# Altium footprint library ic.PcbLib: 40 footprints (part 2 of 3)
Each footprint in its own frame and in the unit in brackets; x right, y up, seen from the top. Pads: shape width x height; smd on the part's side, far side on the other; paste and mask are expansions set on the pad; w line width, h text height; cw(c..) or ccw(c..) is an arc to the next point about the centre after c.
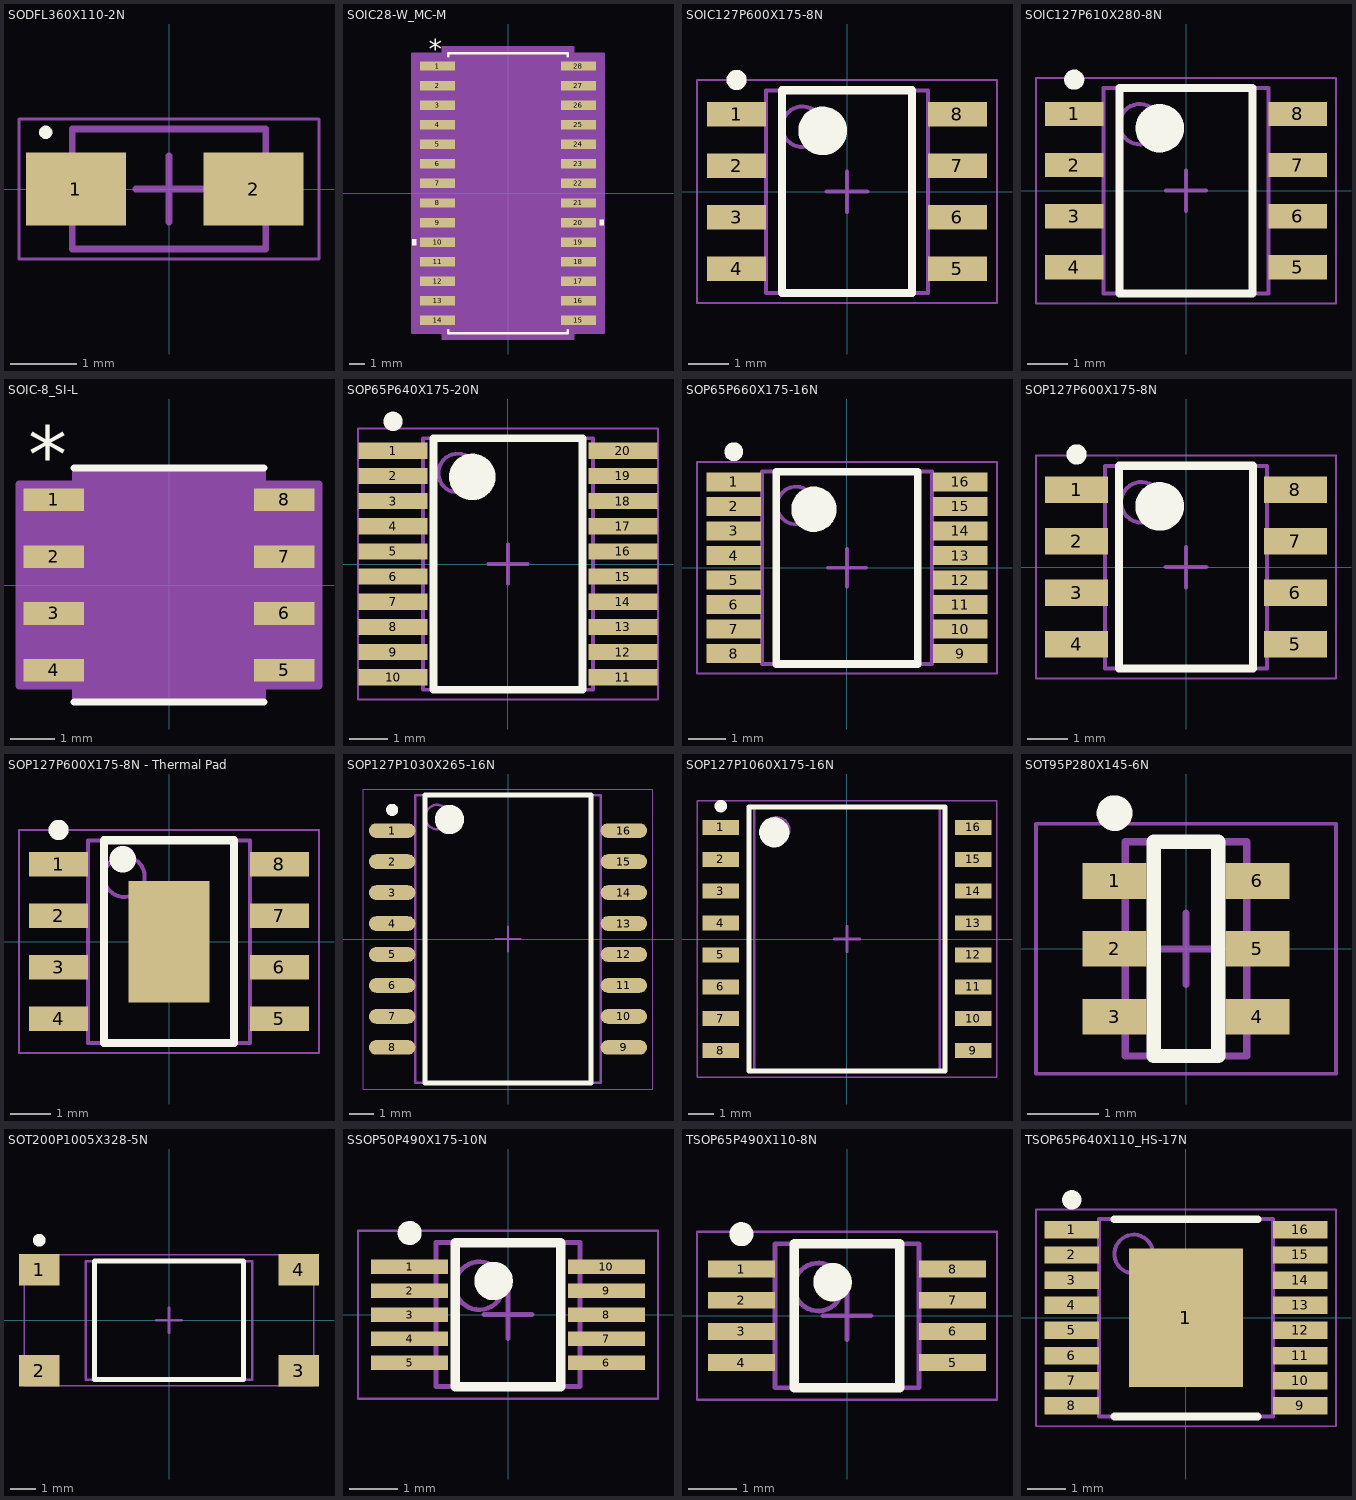
[diagram p1: the footprints below, top view; thin cyan lines are the x and y axes]

## SODFL360X110-2N [mm] "SODFL, 2-Leads, Body 1.65x3.60mm, IPC Medium Density"
height 1.1
pads (2):
  rect 1.5x1.1 smd: 1(-1.397,0) 2(1.27,0)
Top Overlay:
  circle w0.1: c-1.85,0.85 r0.05
Mechanical 13:
  lines w0.1: -1.45,-0.9 -1.45,0.9 1.45,0.9 1.45,-0.9 -1.45,-0.9
Mechanical 15:
  lines w0.05: -2.25,-1.05 -2.25,1.05 2.25,1.05 2.25,-1.05 -2.25,-1.05
  lines w0.1: -0.5,0 0.5,0 ; 0,-0.5 0,0.5
3D body "SODFL360X110-2N.step": height 1.1, standoff 0, extent -1.8,-0.9 1.8,0.9

## SOIC28-W_MC-M [mil]
pads (28):
  rect 90x24 smd paste+0 mask+0: 1(-180,325) 2(-180,275) 3(-180,225) 4(-180,175) 5(-180,125) 6(-180,75) 7(-180,25) 8(-180,-25) 9(-180,-75) 10(-180,-125) 11(-180,-175) 12(-180,-225) 13(-180,-275) 14(-180,-325) 15(180,-325) 16(180,-275) 17(180,-225) 18(180,-175) 19(180,-125) 20(180,-75) 21(180,-25) 22(180,25) 23(180,75) 24(180,125) 25(180,175) 26(180,225) 27(180,275) 28(180,325)
Top Overlay:
  region: 235,-67.5 245,-67.5 245,-82.5 235,-82.5
  region: -235,-117.5 -245,-117.5 -245,-132.5 -235,-132.5
  lines w6: -152.5,-350.1 -152.5,-357.5 152.5,-357.5 152.5,-350.1 ; -152.5,350.1 -152.5,357.5 152.5,357.5 152.5,350.1
  text "*" at -202.5,344 h50
Mechanical 13:
  lines w0: -12,352.5 ccw(c0,352.5) 12,352.5
  lines w1: -203,-335 -147.5,-335 -147.5,-315 -203,-315 -203,-335 ; -203,-285 -147.5,-285 -147.5,-265 -203,-265 -203,-285 ; -203,-235 -147.5,-235 -147.5,-215 -203,-215 -203,-235 ; -203,-185 -147.5,-185 -147.5,-165 -203,-165 -203,-185 ; -203,-135 -147.5,-135 -147.5,-115 -203,-115 -203,-135 ; -203,-85 -147.5,-85 -147.5,-65 -203,-65 -203,-85 ; -203,-35 -147.5,-35 -147.5,-15 -203,-15 -203,-35 ; -203,15 -147.5,15 -147.5,35 -203,35 -203,15 ; -203,65 -147.5,65 -147.5,85 -203,85 -203,65 ; -203,115 -147.5,115 -147.5,135 -203,135 -203,115 ; -203,165 -147.5,165 -147.5,185 -203,185 -203,165 ; -203,215 -147.5,215 -147.5,235 -203,235 -203,215 ; -203,265 -147.5,265 -147.5,285 -203,285 -203,265 ; -203,315 -147.5,315 -147.5,335 -203,335 -203,315 ; -147.5,-352.5 -147.5,352.5 147.5,352.5 147.5,-352.5 -147.5,-352.5 ; 147.5,-335 203,-335 203,-315 147.5,-315 147.5,-335 ; 147.5,-285 203,-285 203,-265 147.5,-265 147.5,-285 ; 147.5,-235 203,-235 203,-215 147.5,-215 147.5,-235 ; 147.5,-185 203,-185 203,-165 147.5,-165 147.5,-185 ; 147.5,-135 203,-135 203,-115 147.5,-115 147.5,-135 ; 147.5,-85 203,-85 203,-65 147.5,-65 147.5,-85 ; 147.5,-35 203,-35 203,-15 147.5,-15 147.5,-35 ; 147.5,15 203,15 203,35 147.5,35 147.5,15 ; 147.5,65 203,65 203,85 147.5,85 147.5,65 ; 147.5,115 203,115 203,135 147.5,135 147.5,115 ; 147.5,165 203,165 203,185 147.5,185 147.5,165 ; 147.5,215 203,215 203,235 147.5,235 147.5,215 ; 147.5,265 203,265 203,285 147.5,285 147.5,265 ; 147.5,315 203,315 203,335 147.5,335 147.5,315
  text "*" at -145,299.5 h50
Mechanical 15:
  region: -167.5,-357 -245,-357 -245,357 -167.5,357 -167.5,372.5 167.5,372.5 167.5,357 245,357 245,-357 167.5,-357 167.5,-372.5 -167.5,-372.5
  lines w6: -245,-357 -167.5,-357 -167.5,-372.5 167.5,-372.5 167.5,-357 245,-357 245,357 167.5,357 167.5,372.5 -167.5,372.5 -167.5,357 -245,357 -245,-357
3D body: height 10, standoff 0, extent 0,0 10,10
3D body: height 9, standoff -1153.85, extent -100,-10 -100,-10
3D body "SOIC28-W_MC-L.stp": height 104.09, standoff 0, extent -202.99,-352.51 203,352.52

## SOIC127P600X175-8N [mm] "SOIC, 8-Leads, Body 4.90x3.90mm, Pitch 1.27mm, IPC Medium Density"
height 1.75
pads (8):
  rect 1.45x0.6 smd: 1(-2.725,1.905) 2(-2.725,0.635) 3(-2.725,-0.635) 4(-2.725,-1.905) 5(2.725,-1.905) 6(2.725,-0.635) 7(2.725,0.635) 8(2.725,1.905)
Top Overlay:
  circle w0.6: c-0.6,1.5 r0.3
  circle w0.25: c-2.725,2.755 r0.125
  lines w0.2: -1.6,-2.5 1.6,-2.5 1.6,2.5 -1.6,2.5 -1.6,-2.5
Mechanical 13:
  circle w0.1: c-1.1,1.6 r0.5
  lines w0.1: -2,-2.5 2,-2.5 2,2.5 -2,2.5 -2,-2.5
Mechanical 15:
  lines w0.05: -3.7,-2.75 3.7,-2.75 3.7,2.75 -3.7,2.75 -3.7,-2.75
  lines w0.1: -0.5,0 0.5,0 ; 0,-0.5 0,0.5
3D body: height 1.75, standoff 0.1, extent -2,-2.5 2,2.5

## SOIC127P610X280-8N [mm] "SOIC, 8-Leads, Body 5.10x4.10mm, Pitch 1.27mm, IPC Medium Density"
height 2.8
pads (8):
  rect 1.45x0.6 smd: 1(-2.775,1.905) 2(-2.775,0.635) 3(-2.775,-0.635) 4(-2.775,-1.905) 5(2.775,-1.905) 6(2.775,-0.635) 7(2.775,0.635) 8(2.775,1.905)
Top Overlay:
  circle w0.6: c-0.65,1.55 r0.3
  circle w0.25: c-2.775,2.755 r0.125
  lines w0.2: -1.65,-2.55 1.65,-2.55 1.65,2.55 -1.65,2.55 -1.65,-2.55
Mechanical 13:
  circle w0.1: c-1.15,1.65 r0.5
  lines w0.1: -2.05,-2.55 2.05,-2.55 2.05,2.55 -2.05,2.55 -2.05,-2.55
Mechanical 15:
  lines w0.05: -3.725,-2.8 3.725,-2.8 3.725,2.8 -3.725,2.8 -3.725,-2.8
  lines w0.1: -0.5,0 0.5,0 ; 0,-0.5 0,0.5
3D body: height 2.8, standoff 0.25, extent -2.05,-2.55 2.05,2.55

## SOIC-8_SI-L [mil]
pads (8):
  rect 53x20 smd paste+0 mask+0: 1(-101.5,75) 2(-101.5,25) 3(-101.5,-25) 4(-101.5,-75) 5(101.5,-75) 6(101.5,-25) 7(101.5,25) 8(101.5,75)
Top Overlay:
  lines w6: -83.5,-103 83.5,-103 ; -83.5,103 83.5,103
  text "*" at -124,90 h50
Mechanical 13:
  lines w0: -12,98 ccw(c0,98) 12,98
  lines w1: -122,-85 -122,-65 -78.5,-65 -78.5,-85 -122,-85 ; -122,-35 -122,-15 -78.5,-15 -78.5,-35 -122,-35 ; -122,15 -122,35 -78.5,35 -78.5,15 -122,15 ; -122,65 -122,85 -78.5,85 -78.5,65 -122,65 ; -78.5,-98 78.5,-98 78.5,98 -78.5,98 -78.5,-98 ; 78.5,-85 78.5,-65 122,-65 122,-85 78.5,-85 ; 78.5,-35 78.5,-15 122,-15 122,-35 78.5,-35 ; 78.5,15 78.5,35 122,35 122,15 78.5,15 ; 78.5,65 78.5,85 122,85 122,65 78.5,65
  text "*" at -76,45 h50
Mechanical 15:
  region: -82.5,-89 -132,-89 -132,89 -82.5,89 -82.5,102 82.5,102 82.5,89 132,89 132,-89 82.5,-89 82.5,-102 -82.5,-102
  lines w6: -132,-89 -132,89 -82.5,89 -82.5,102 82.5,102 82.5,89 132,89 132,-89 82.5,-89 82.5,-102 -82.5,-102 -82.5,-89 -132,-89
3D body: height 10, standoff 0, extent 0,0 10,10
3D body "SOIC-8_SI-L.stp": height 69.09, standoff 0, extent -122,-97.99 122.01,98

## SOP65P640X175-20N [mm] "SOP, 20-Leads, Body 6.50x4.40mm, Pitch 0.65mm, IPC Medium Density"
height 1.75
pads (20):
  rect 1.78x0.42 smd: 1(-2.97,2.925) 2(-2.97,2.275) 3(-2.97,1.625) 4(-2.97,0.975) 5(-2.97,0.325) 6(-2.97,-0.325) 7(-2.97,-0.975) 8(-2.97,-1.625) 9(-2.97,-2.275) 10(-2.97,-2.925) 11(2.97,-2.925) 12(2.97,-2.275) 13(2.97,-1.625) 14(2.97,-0.975) 15(2.97,-0.325) 16(2.97,0.325) 17(2.97,0.975) 18(2.97,1.625) 19(2.97,2.275) 20(2.97,2.925)
Top Overlay:
  circle w0.25: c-2.97,3.685 r0.125
  circle w0.6: c-0.925,2.25 r0.3
  lines w0.2: -1.925,-3.25 -1.925,3.25 1.925,3.25 1.925,-3.25 -1.925,-3.25
Mechanical 13:
  circle w0.1: c-1.3,2.35 r0.5
  lines w0.1: -2.2,-3.25 -2.2,3.25 2.2,3.25 2.2,-3.25 -2.2,-3.25
Mechanical 15:
  lines w0.05: -3.875,-3.5 -3.875,3.5 3.875,3.5 3.875,-3.5 -3.875,-3.5
  lines w0.1: -0.5,0 0.5,0 ; 0,-0.5 0,0.5
3D body "SOP65P640X175-20N.step": height 1.75, standoff 0, extent -3.2,-3.25 3.2,3.25

## SOP65P660X175-16N [mm] "SOP, 16-Leads, Body 5.10x4.50mm, Pitch 0.65mm, IPC Medium Density"
height 1.75
pads (16):
  rect 1.45x0.5 smd: 1(-3,2.275) 2(-3,1.625) 3(-3,0.975) 4(-3,0.325) 5(-3,-0.325) 6(-3,-0.975) 7(-3,-1.625) 8(-3,-2.275) 9(3,-2.275) 10(3,-1.625) 11(3,-0.975) 12(3,-0.325) 13(3,0.325) 14(3,0.975) 15(3,1.625) 16(3,2.275)
Top Overlay:
  circle w0.6: c-0.875,1.55 r0.3
  circle w0.25: c-3,3.075 r0.125
  lines w0.2: -1.875,-2.55 1.875,-2.55 1.875,2.55 -1.875,2.55 -1.875,-2.55
Mechanical 13:
  circle w0.1: c-1.35,1.65 r0.5
  lines w0.1: -2.25,-2.55 2.25,-2.55 2.25,2.55 -2.25,2.55 -2.25,-2.55
Mechanical 15:
  lines w0.05: -3.975,-2.8 3.975,-2.8 3.975,2.8 -3.975,2.8 -3.975,-2.8
  lines w0.1: -0.5,0 0.5,0 ; 0,-0.5 0,0.5
3D body "SOP65P660X175-16N.step": height 1.75, standoff 0, extent -3.3,-2.55 3.3,2.55

## SOP127P600X175-8N [mm] "SOP, 8-Leads, Body 4.91x3.90mm, Pitch 1.27mm, IPC Medium Density"
height 1.75
pads (8):
  rect 1.55x0.65 smd: 1(-2.7,1.905) 2(-2.7,0.635) 3(-2.7,-0.635) 4(-2.7,-1.905) 5(2.7,-1.905) 6(2.7,-0.635) 7(2.7,0.635) 8(2.7,1.905)
Top Overlay:
  circle w0.25: c-2.7,2.78 r0.125
  circle w0.6: c-0.65,1.5 r0.3
  lines w0.2: -1.65,-2.5 -1.65,2.5 1.65,2.5 1.65,-2.5 -1.65,-2.5
Mechanical 13:
  circle w0.1: c-1.1,1.6 r0.5
  lines w0.1: -2,-2.5 -2,2.5 2,2.5 2,-2.5 -2,-2.5
Mechanical 15:
  lines w0.05: -3.7,-2.75 -3.7,2.75 3.7,2.75 3.7,-2.75 -3.7,-2.75
  lines w0.1: -0.5,0 0.5,0 ; 0,-0.5 0,0.5
3D body "SOP127P600X175-8N.step": height 1.75, standoff 0, extent -2.997,-2.5 2.997,2.5

## SOP127P600X175-8N - Thermal Pad [mm]
pads (9):
  rect 1.45x0.6 smd: 1(-2.725,1.905) 2(-2.725,0.635) 3(-2.725,-0.635) 4(-2.725,-1.905) 5(2.725,-1.905) 6(2.725,-0.635) 7(2.725,0.635) 8(2.725,1.905)
  rect 2x3 smd: ""(0,0)
Top Overlay:
  circle w0.25: c-2.725,2.755 r0.125
  circle w0.6: c-1.143,2.032 r0.025
  lines w0.2: -1.6,-2.5 -1.6,2.5 1.6,2.5 1.6,-2.5 -1.6,-2.5
Mechanical 13:
  circle w0.1: c-1.1,1.6 r0.5
  lines w0.1: -2,-2.5 -2,2.5 2,2.5 2,-2.5 -2,-2.5
Mechanical 15:
  lines w0.05: -3.7,-2.75 -3.7,2.75 3.7,2.75 3.7,-2.75 -3.7,-2.75
  lines w0.1: -0.5,0 0.5,0 ; 0,-0.5 0,0.5
3D body "SOP127P600X175-8N.step": height 1.75, standoff 0, extent -2.997,-2.5 2.997,2.5

## SOP127P1030X265-16N [mm] "SOP, 16-Leads, Body 11.55x7.50mm, Pitch 1.27mm, IPC Medium Density"
height 2.65
pads (16):
  oval 1.9x0.6 smd: 1(-4.75,4.445) 2(-4.75,3.175) 3(-4.75,1.905) 4(-4.75,0.635) 5(-4.75,-0.635) 6(-4.75,-1.905) 7(-4.75,-3.175) 8(-4.75,-4.445) 9(4.75,-4.445) 10(4.75,-3.175) 11(4.75,-1.905) 12(4.75,-0.635) 13(4.75,0.635) 14(4.75,1.905) 15(4.75,3.175) 16(4.75,4.445)
Top Overlay:
  circle w0.6: c-2.4,4.9 r0.3
  circle w0.25: c-4.75,5.295 r0.125
  lines w0.2: -3.4,-5.9 3.4,-5.9 3.4,5.9 -3.4,5.9 -3.4,-5.9
Mechanical 13:
  circle w0.1: c-2.9,5 r0.5
  lines w0.1: -3.8,-5.9 3.8,-5.9 3.8,5.9 -3.8,5.9 -3.8,-5.9
Mechanical 15:
  lines w0.05: -5.925,-6.15 5.925,-6.15 5.925,6.15 -5.925,6.15 -5.925,-6.15
  lines w0.1: -0.5,0 0.5,0 ; 0,-0.5 0,0.5
3D body "SOP127P1030X265-16N.step": height 2.65, standoff 0, extent -5.162,-5.9 5.162,5.9

## SOP127P1060X175-16N [mm] "SOP, 16-Leads, Body 10.50x7.50mm, Pitch 1.27mm, IPC Medium Density"
height 1.75
pads (16):
  rect 1.45x0.6 smd: 1(-5.025,4.445) 2(-5.025,3.175) 3(-5.025,1.905) 4(-5.025,0.635) 5(-5.025,-0.635) 6(-5.025,-1.905) 7(-5.025,-3.175) 8(-5.025,-4.445) 9(5.025,-4.445) 10(5.025,-3.175) 11(5.025,-1.905) 12(5.025,-0.635) 13(5.025,0.635) 14(5.025,1.905) 15(5.025,3.175) 16(5.025,4.445)
Top Overlay:
  circle w0.6: c-2.9,4.25 r0.3
  circle w0.25: c-5.025,5.295 r0.125
  lines w0.2: -3.9,-5.25 3.9,-5.25 3.9,5.25 -3.9,5.25 -3.9,-5.25
Mechanical 13:
  circle w0.1: c-2.8,4.35 r0.5
  lines w0.1: -3.7,-5.25 3.7,-5.25 3.7,5.25 -3.7,5.25 -3.7,-5.25
Mechanical 15:
  lines w0.05: -5.975,-5.5 5.975,-5.5 5.975,5.5 -5.975,5.5 -5.975,-5.5
  lines w0.1: -0.5,0 0.5,0 ; 0,-0.5 0,0.5
3D body "SOP127P1060X175-16N.step": height 1.75, standoff 0, extent -5.315,-5.25 5.315,5.25

## SOT95P280X145-6N [mm] "SOT23, 6-Leads, Body 2.90x2.80mm, Pitch 0.95mm, IPC Medium Density"
height 1.45
pads (6):
  rect 0.9x0.5 smd: 1(-1,0.95) 2(-1,0) 3(-1,-0.95) 4(1,-0.95) 5(1,0) 6(1,0.95)
Top Overlay:
  circle w0.25: c-1,1.9 r0.125
  lines w0.2: -0.45,-1.5 0.45,-1.5 0.45,1.5 -0.45,1.5 -0.45,-1.5
Mechanical 13:
  lines w0.1: -0.85,-1.5 -0.85,1.5 0.85,1.5 0.85,-1.5 -0.85,-1.5
Mechanical 15:
  lines w0.05: -2.1,-1.75 -2.1,1.75 2.1,1.75 2.1,-1.75 -2.1,-1.75
  lines w0.1: -0.5,0 0.5,0 ; 0,-0.5 0,0.5
3D body: height 1.45, standoff 0.05, extent -0.85,-1.5 0.85,1.5

## SOT200P1005X328-5N [mm] "SOT23, 5-Leads, Body 4.60x10.05mm, Pitch 2.00mm, IPC Medium Density"
height 3.28
pads (4):
  rect 1.6x1.25 smd: 1(-5.15,2) 2(-5.15,-2) 3(5.15,-2) 4(5.15,2)
Top Overlay:
  circle w0.25: c-5.15,3.175 r0.125
  lines w0.2: -2.95,-2.35 2.95,-2.35 2.95,2.35 -2.95,2.35 -2.95,-2.35
Mechanical 13:
  lines w0.1: -3.3,-2.35 -3.3,2.35 3.3,2.35 3.3,-2.35 -3.3,-2.35
Mechanical 15:
  lines w0.05: -5.75,-2.6 -5.75,2.6 5.75,2.6 5.75,-2.6 -5.75,-2.6
  lines w0.1: -0.5,0 0.5,0 ; 0,-0.5 0,0.5
3D body "SOT200P1005X328-5N.step": height 3.28, standoff 0, extent -5.15,-2.625 5.15,2.625

## SSOP50P490X175-10N [mm] "SSOP, 10-Leads, Body 3.00x3.00mm, Pitch 0.50mm, IPC Medium Density"
height 1.75
pads (10):
  rect 1.6x0.3 smd: 1(-2.05,1) 2(-2.05,0.5) 3(-2.05,0) 4(-2.05,-0.5) 5(-2.05,-1) 6(2.05,-1) 7(2.05,-0.5) 8(2.05,0) 9(2.05,0.5) 10(2.05,1)
Top Overlay:
  circle w0.25: c-2.05,1.7 r0.125
  circle w0.4: c-0.3,0.7 r0.2
  lines w0.2: -1.1,-1.5 -1.1,1.5 1.1,1.5 1.1,-1.5 -1.1,-1.5
Mechanical 13:
  circle w0.1: c-0.6,0.6 r0.5
  lines w0.1: -1.5,-1.5 -1.5,1.5 1.5,1.5 1.5,-1.5 -1.5,-1.5
Mechanical 15:
  lines w0.05: -3.125,-1.75 -3.125,1.75 3.125,1.75 3.125,-1.75 -3.125,-1.75
  lines w0.1: -0.5,0 0.5,0 ; 0,-0.5 0,0.5
3D body "SSOP50P490X175-10N.step": height 1.75, standoff 0, extent -2.45,-1.5 2.45,1.5

## TSOP65P490X110-8N [mm] "TSOP, 8-Leads, Body 3.00x3.00mm, Pitch 0.65mm, IPC Medium Density"
height 1.1
pads (8):
  rect 1.4x0.35 smd: 1(-2.2,0.975) 2(-2.2,0.325) 3(-2.2,-0.325) 4(-2.2,-0.975) 5(2.2,-0.975) 6(2.2,-0.325) 7(2.2,0.325) 8(2.2,0.975)
Top Overlay:
  circle w0.4: c-0.3,0.7 r0.2
  circle w0.25: c-2.2,1.7 r0.125
  lines w0.2: -1.1,-1.5 1.1,-1.5 1.1,1.5 -1.1,1.5 -1.1,-1.5
Mechanical 13:
  circle w0.1: c-0.6,0.6 r0.5
  lines w0.1: -1.5,-1.5 1.5,-1.5 1.5,1.5 -1.5,1.5 -1.5,-1.5
Mechanical 15:
  lines w0.05: -3.125,-1.75 3.125,-1.75 3.125,1.75 -3.125,1.75 -3.125,-1.75
  lines w0.1: -0.5,0 0.5,0 ; 0,-0.5 0,0.5
3D body "TSOP65P490X110-8N.step": height 1.1, standoff 0, extent -2.45,-1.5 2.45,1.5

## TSOP65P640X110_HS-17N [mm] "TSOP, 16-Leads, Body 5.00x4.40mm, Pitch 0.65mm, Thermal Pad 3.58x2.94mm, IPC Medium Density"
height 1.1
pads (17):
  rect 1.4x0.45 smd: 1(-2.95,2.275) 2(-2.95,1.625) 3(-2.95,0.975) 4(-2.95,0.325) 5(-2.95,-0.325) 6(-2.95,-0.975) 7(-2.95,-1.625) 8(-2.95,-2.275) 9(2.95,-2.275) 10(2.95,-1.625) 11(2.95,-0.975) 12(2.95,-0.325) 13(2.95,0.325) 14(2.95,0.975) 15(2.95,1.625) 16(2.95,2.275)
  rect 2.94x3.58 smd: 1(0,0)
Top Overlay:
  circle w0.25: c-2.95,3.05 r0.125
  lines w0.2: -1.85,-2.55 1.85,-2.55 ; -1.85,2.55 1.85,2.55
Mechanical 13:
  circle w0.1: c-1.35,1.65 r0.5
  lines w0.1: -2.25,-2.55 -2.25,2.55 2.25,2.55 2.25,-2.55 -2.25,-2.55
Mechanical 15:
  lines w0.05: -3.875,-2.8 -3.875,2.8 3.875,2.8 3.875,-2.8 -3.875,-2.8
  lines w0.1: -0.5,0 0.5,0 ; 0,-0.5 0,0.5
3D body "TSOP65P640X110_HS-17N.step": height 1.1, standoff 0, extent -3.2,-2.55 3.2,2.55